# EAGLE library part HIROSE-DM3AT-AT-PEJM5 (library personal)
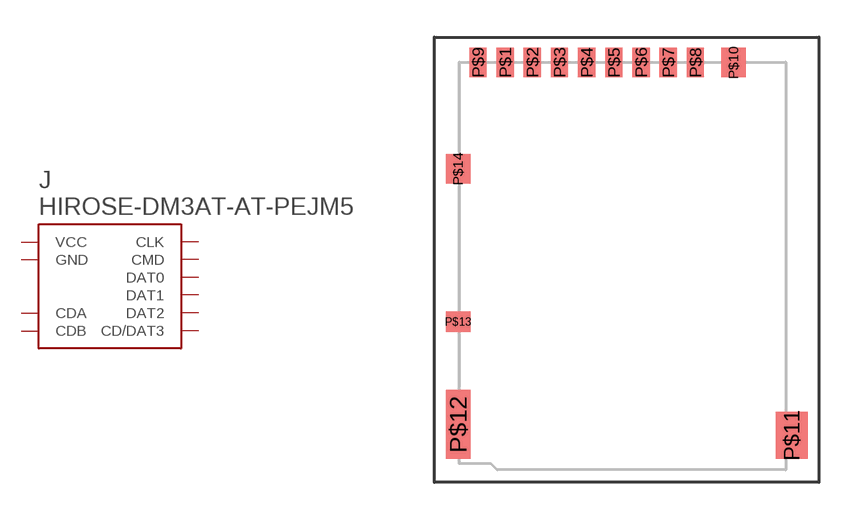
[diagram p14: symbol with the pads of HIROSE-DM3AT-PEJM5; footprint HIROSE-DM3AT-PEJM5]

Designator prefix J

## HIROSE-DM3AT-AT-PEJM5  [HIROSE-DM3AT-PEJM5]
P$1  DAT1
P$2  DAT0
P$3  GND
P$4  CLK
P$5  VCC
P$6  CMD
P$7  CD/DAT3
P$8  DAT2
P$9  CDB
P$10  GND
P$11  GND
P$12  GND
P$13  CDA
P$14  GND

## Footprint HIROSE-DM3AT-PEJM5 (pad centres in mm)
smd 0.7 x 1.2: P$1 -4.5,7.35; P$2 -3.4,7.35; P$3 -2.3,7.35; P$4 -1.2,7.35; P$5 -0.1,7.35; P$6 1,7.35; P$7 2.1,7.35; P$8 3.2,7.35; P$9 -5.6,7.35
smd 1 x 1.2: P$10 4.75,7.35; P$14 -6.4,3.05
smd 1.3 x 1.9: P$11 7.1,-7.75
smd 1 x 2.8: P$12 -6.4,-7.3
smd 1 x 0.8: P$13 -6.4,-3.15